# EAGLE library part 74441-0010 (library 74441-0010)
0.80mm Pitch SFP, SFP Plus (SFP+) Host Connector, Z-Axis Pluggable, Right Angle, SMT, 20 Circuits, 0.76µm Gold (Au)
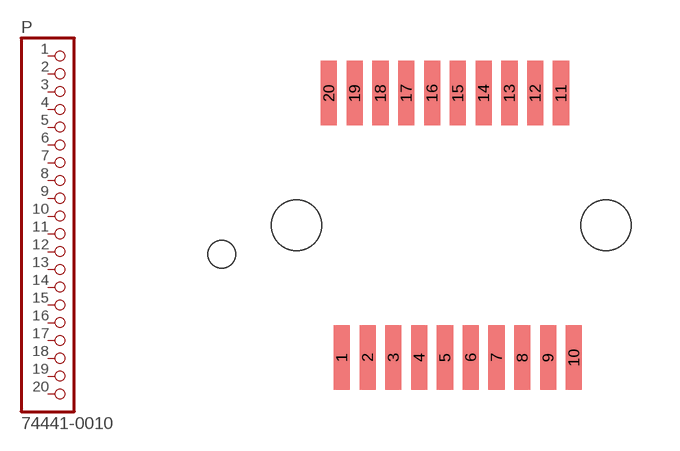
[diagram p0: symbol with the pads of MOLEX_74441-0010; footprint MOLEX_74441-0010]

Designator prefix P

## 74441-0010 (Availability: Unavailable; Description: 0.80mm Pitch SFP, SFP Plus _SFP+_ Host Connector, Z-Axis Pluggable, Right Angle, SMT, 20 Circuits, 0.76µm Gold _Au_; MF: Molex; MP: 74441-0010; Package: None; Price: None)  [MOLEX_74441-0010]
1  1  pas
2  2  pas
3  3  pas
4  4  pas
5  5  pas
6  6  pas
7  7  pas
8  8  pas
9  9  pas
10  10  pas
11  11  pas
12  12  pas
13  13  pas
14  14  pas
15  15  pas
16  16  pas
17  17  pas
18  18  pas
19  19  pas
20  20  pas

## Footprint MOLEX_74441-0010 (pad centres in mm)
smd 0.5 x 2: 1 -3.2,-4.1; 2 -2.4,-4.1; 3 -1.6,-4.1; 4 -0.8,-4.1; 5 0,-4.1; 6 0.8,-4.1; 7 1.6,-4.1; 8 2.4,-4.1; 9 3.2,-4.1; 10 4,-4.1; 11 3.6,4.1; 12 2.8,4.1; 13 2,4.1; 14 1.2,4.1; 15 0.4,4.1; 16 -0.4,4.1; 17 -1.2,4.1; 18 -2,4.1; 19 -2.8,4.1; 20 -3.6,4.1
hole 0.85 at -6.93,-0.9
hole 1.55 at -4.6,0
hole 1.55 at 5,0